# EAGLE library part 24AA025UID (library Microchip)
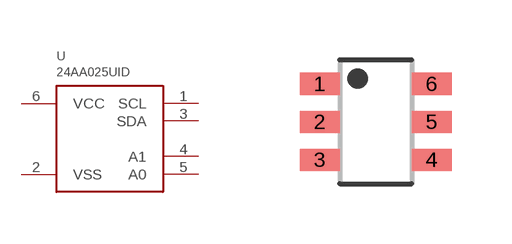
[diagram p62: symbol with the pads of SOT23-6; footprint SOT23-6]

Designator prefix U

## 24AA025UID  [SOT23-6]
1  SCL  in
2  VSS  pwr
3  SDA  in
4  A1  in
5  A0  in
6  VCC  pwr

## Footprint SOT23-6 (pad centres in mm)
smd 1 x 0.55: 1 -1.4,0.95; 2 -1.4,0; 3 -1.4,-0.95; 4 1.4,-0.95; 5 1.4,0; 6 1.4,0.95